# EAGLE library part TSW-S-29_S (library con-samtec-tsw)
HEADER
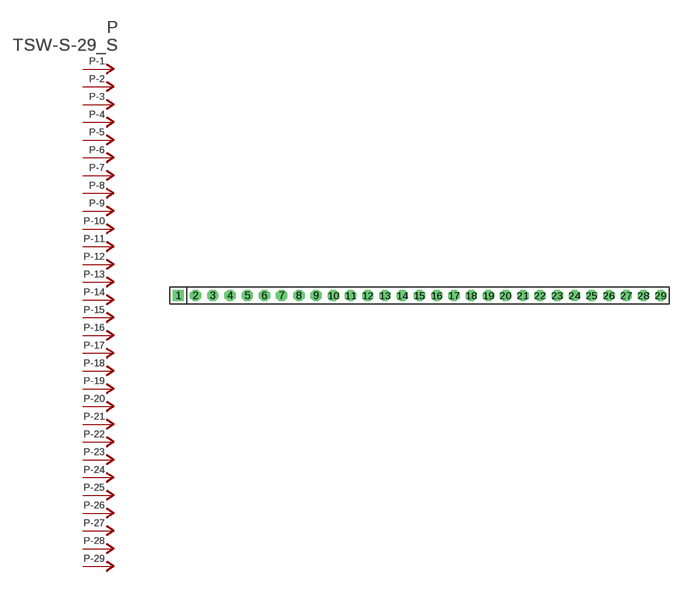
[diagram p68: symbol with the pads of TSW-S-29; footprint TSW-S-29]

Designator prefix P; gates -1=P-NV -2=P-N -3=P-N -4=P-N -5=P-N -6=P-N -7=P-N -8=P-N -9=P-N -10=P-N -11=P-N -12=P-N -13=P-N -14=P-N -15=P-N -16=P-N -17=P-N -18=P-N -19=P-N -20=P-N -21=P-N -22=P-N -23=P-N -24=P-N -25=P-N -26=P-N -27=P-N -28=P-N -29=P-N

## TSW-S-29_S  [TSW-S-29]
1  -1:P  pas
2  -2:P  pas
3  -3:P  pas
4  -4:P  pas
5  -5:P  pas
6  -6:P  pas
7  -7:P  pas
8  -8:P  pas
9  -9:P  pas
10  -10:P  pas
11  -11:P  pas
12  -12:P  pas
13  -13:P  pas
14  -14:P  pas
15  -15:P  pas
16  -16:P  pas
17  -17:P  pas
18  -18:P  pas
19  -19:P  pas
20  -20:P  pas
21  -21:P  pas
22  -22:P  pas
23  -23:P  pas
24  -24:P  pas
25  -25:P  pas
26  -26:P  pas
27  -27:P  pas
28  -28:P  pas
29  -29:P  pas

## Footprint TSW-S-29 (pad centres in mm)
HEADER
drill 0.914 pad 1.676 square: 1 -35.56,0
drill 0.914 pad 1.676 octagon: 2 -33.02,0; 3 -30.48,0; 4 -27.94,0; 5 -25.4,0; 6 -22.86,0; 7 -20.32,0; 8 -17.78,0; 9 -15.24,0; 10 -12.7,0; 11 -10.16,0; 12 -7.62,0; 13 -5.08,0; 14 -2.54,0; 15 0,0; 16 2.54,0; 17 5.08,0; 18 7.62,0; 19 10.16,0; 20 12.7,0; 21 15.24,0; 22 17.78,0; 23 20.32,0; 24 22.86,0; 25 25.4,0; 26 27.94,0; 27 30.48,0; 28 33.02,0; 29 35.56,0